# EAGLE library part MAX4734 (library Maxim Integrated)
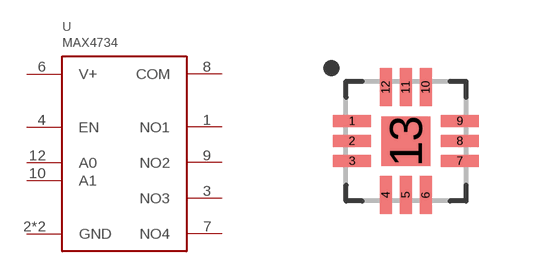
[diagram p2: symbol with the pads of QFN12; footprint QFN12]

Designator prefix U

## MAX4734  [QFN12]
1  NO1
2  GND
3  NO3
4  EN
6  V+
7  NO4
8  COM
9  NO2
10  A1
12  A0
13  GND

## Footprint QFN12 (pad centres in mm)
smd 0.95 x 0.3: 1 -1.35,0.5; 2 -1.35,0; 3 -1.35,-0.5; 7 1.35,-0.5; 8 1.35,0; 9 1.35,0.5
smd 0.3 x 0.95: 4 -0.5,-1.35; 5 0,-1.35; 6 0.5,-1.35; 10 0.5,1.35; 11 0,1.35; 12 -0.5,1.35
smd 1.23 x 1.23: 13 0,0